# EAGLE library part BTS5200-4EKA (library PROFET - Infineon)
BTS5200-4EKA Smart High-Side Power Switch, Quad Channel, 32 mOhm SOIC127P600X170-15N
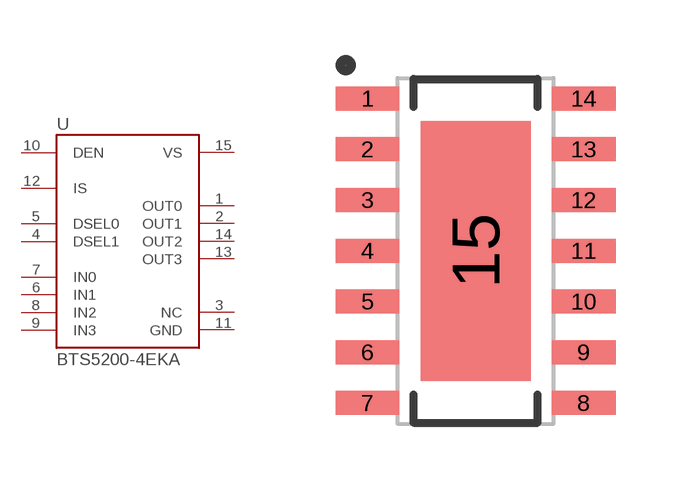
[diagram p64: symbol with the pads of SOIC127P600X170-15N; footprint SOIC127P600X170-15N]

Designator prefix U

## BTS5200-4EKA  [SOIC127P600X170-15N]
1  OUT0  out
2  OUT1  out
3  NC  pas
4  DSEL1  in
5  DSEL0  in
6  IN1  in
7  IN0  in
8  IN2  in
9  IN3  in
10  DEN  in
11  GND  pwr
12  IS  out
13  OUT3  out
14  OUT2  out
15  VS  pwr

## Footprint SOIC127P600X170-15N (pad centres in mm)
Original name SOIC127P600X170-15N Max Component Height - 1.7mm
smd 1.6 x 0.6: 1 -2.7,3.81; 2 -2.7,2.54; 3 -2.7,1.27; 4 -2.7,0; 5 -2.7,-1.27; 6 -2.7,-2.54; 7 -2.7,-3.81; 8 2.7,-3.81; 9 2.7,-2.54; 10 2.7,-1.27; 11 2.7,0; 12 2.7,1.27; 13 2.7,2.54; 14 2.7,3.81
smd 2.75 x 6.5: 15 0,0